# Altium footprint library RFID  Board PCB.PcbLib: 57 footprints (part 2 of 4)
Each footprint in its own frame and in the unit in brackets; x right, y up, seen from the top. Pads: shape width x height; smd on the part's side, far side on the other; paste and mask are expansions set on the pad; w line width, h text height; cw(c..) or ccw(c..) is an arc to the next point about the centre after c.
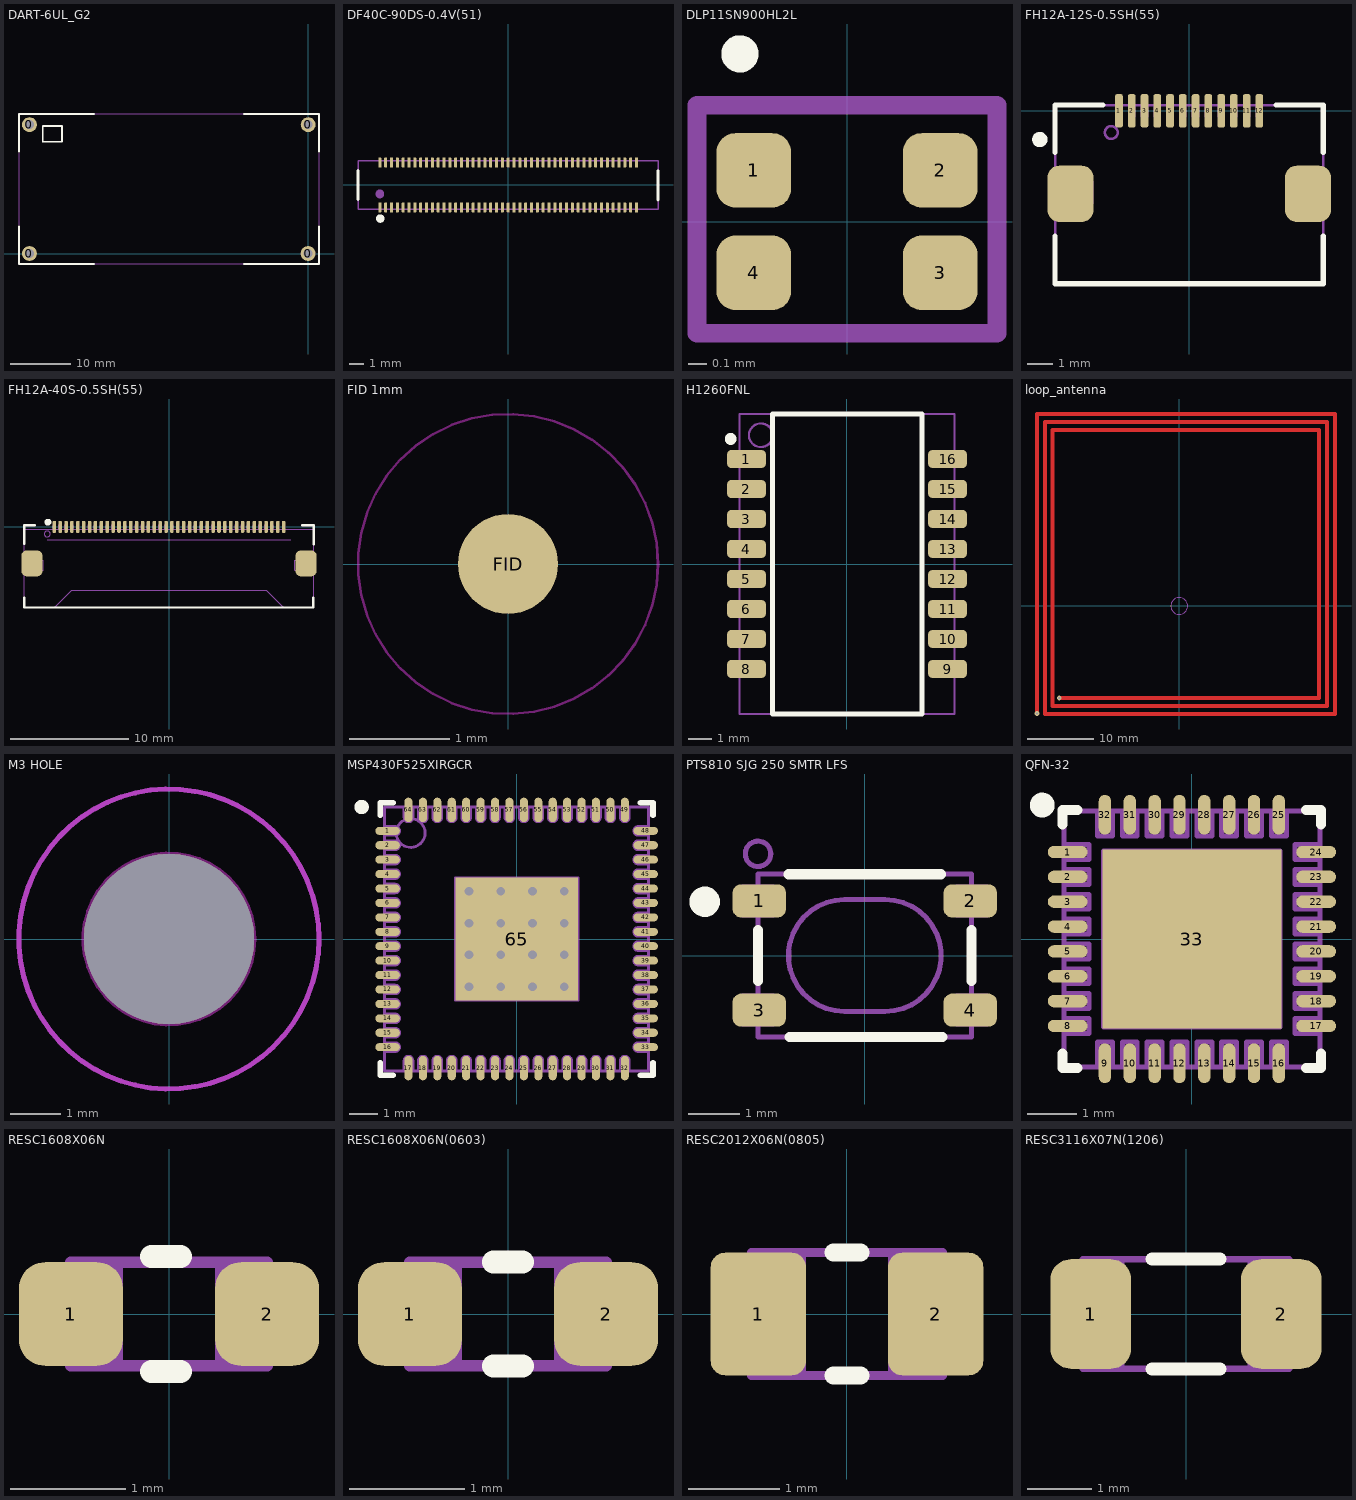
[diagram p1: the footprints below, top view; thin cyan lines are the x and y axes]

## DART-6UL_G2 [mm] "Compute Module 255x50x4mm."
height 5
pads (4):
  round 2.5 hole 1.5: 0(-46.465,0) 0(-46.465,21.478) 0(0,0) 0(0.016,21.478)
Top Overlay:
  lines w0.3: -48.215,-1.75 -48.215,4.508 ; -48.215,17.024 -48.215,23.282 -35.707,23.282 ; -48.165,-1.743 -35.657,-1.743 ; -10.691,-1.768 1.817,-1.768 ; -10.691,23.282 1.817,23.282 1.817,17.024 ; 1.817,-1.75 1.817,4.508 ; -44.24,18.65 ccw(c-44.215,18.65) -44.215,18.625 -41.04,18.625 -41.04,21.275 -44.24,21.275 -44.24,18.65
Mechanical 15:
  lines w0.2: -48.215,-1.75 -48.215,23.282 1.817,23.282 1.817,-1.75 -48.215,-1.75 -48.215,-1.75
3D body "DART-6UL_REV1-2-FINAL.STEP": height 5.45, standoff 0.55, extent -48.215,-1.75 1.817,23.282

## DF40C-90DS-0.4V(51) [mm] "Board to Board Connector 90 way, 0.4mm pitch,"
height 1.14
pads (90):
  rrect50% 0.2x0.7 smd mask+0.05: 1(-8.8,-1.54) 2(-8.8,1.54) 3(-8.4,-1.54) 4(-8.4,1.54) 5(-8,-1.54) 6(-8,1.54) 7(-7.6,-1.54) 8(-7.6,1.54) 9(-7.2,-1.54) 10(-7.2,1.54) 11(-6.8,-1.54) 12(-6.8,1.54) 13(-6.4,-1.54) 14(-6.4,1.54) 15(-6,-1.54) 16(-6,1.54) 17(-5.6,-1.54) 18(-5.6,1.54) 19(-5.2,-1.54) 20(-5.2,1.54) 21(-4.8,-1.54) 22(-4.8,1.54) 23(-4.4,-1.54) 24(-4.4,1.54) 25(-4,-1.54) 26(-4,1.54) 27(-3.6,-1.54) 28(-3.6,1.54) 29(-3.2,-1.54) 30(-3.2,1.54) 31(-2.8,-1.54) 32(-2.8,1.54) 33(-2.4,-1.54) 34(-2.4,1.54) 35(-2,-1.54) 36(-2,1.54) 37(-1.6,-1.54) 38(-1.6,1.54) 39(-1.2,-1.54) 40(-1.2,1.54) 41(-0.8,-1.54) 42(-0.8,1.54) 43(-0.4,-1.54) 44(-0.4,1.54) 45(0,-1.54) 46(0,1.54) 47(0.4,-1.54) 48(0.4,1.54) 49(0.8,-1.54) 50(0.8,1.54) 51(1.2,-1.54) 52(1.2,1.54) 53(1.6,-1.54) 54(1.6,1.54) 55(2,-1.54) 56(2,1.54) 57(2.4,-1.54) 58(2.4,1.54) 59(2.8,-1.54) 60(2.8,1.54) 61(3.2,-1.54) 62(3.2,1.54) 63(3.6,-1.54) 64(3.6,1.54) 65(4,-1.54) 66(4,1.54) 67(4.4,-1.54) 68(4.4,1.54) 69(4.8,-1.54) 70(4.8,1.54) 71(5.2,-1.54) 72(5.2,1.54) 73(5.6,-1.54) 74(5.6,1.54) 75(6,-1.54) 76(6,1.54) 77(6.4,-1.54) 78(6.4,1.54) 79(6.8,-1.54) 80(6.8,1.54) 81(7.2,-1.54) 82(7.2,1.54) 83(7.6,-1.54) 84(7.6,1.54) 85(8,-1.54) 86(8,1.54) 87(8.4,-1.54) 88(8.4,1.54) 89(8.8,-1.54) 90(8.8,1.54)
Top Overlay:
  circle w0.3: c-8.775,-2.3 r0.141
  lines w0.2: -10.3,-1 -10.3,1 ; 10.275,-1.025 10.275,0.975
Mechanical 13:
  circle w0.3: c-8.8,-0.625 r0.141
  lines w0.102: -10.3,-1.675 -10.3,1.675 10.275,1.675 10.275,-1.675 -10.3,-1.675
  text ".Designator" at -2.3,-0.49 h1.2
Mechanical 15:
  circle w0.3: c-8.8,-0.6 r0.141
  lines w0.102: -10.3,-1.675 -10.3,1.675 10.275,1.675 10.275,-1.675 -10.3,-1.675
  lines w0.12: -8.8,-1.65 -8.8,-1.4 ; -8.8,1.4 -8.8,1.65 ; -8.4,-1.65 -8.4,-1.4 ; -8.4,1.4 -8.4,1.65 ; -8,-1.65 -8,-1.4 ; -8,1.4 -8,1.65 ; -7.6,-1.65 -7.6,-1.4 ; -7.6,1.4 -7.6,1.65 ; -7.2,-1.65 -7.2,-1.4 ; -7.2,1.4 -7.2,1.65 ; -6.8,-1.65 -6.8,-1.4 ; -6.8,1.4 -6.8,1.65 ; -6.4,-1.65 -6.4,-1.4 ; -6.4,1.4 -6.4,1.65 ; -6,-1.65 -6,-1.4 ; -6,1.4 -6,1.65 ; -5.6,-1.65 -5.6,-1.4 ; -5.6,1.4 -5.6,1.65 ; -5.2,-1.65 -5.2,-1.4 ; -5.2,1.4 -5.2,1.65 ; -4.8,-1.65 -4.8,-1.4 ; -4.8,1.4 -4.8,1.65 ; -4.4,-1.65 -4.4,-1.4 ; -4.4,1.4 -4.4,1.65 ; -4,-1.65 -4,-1.4 ; -4,1.4 -4,1.65 ; -3.6,-1.65 -3.6,-1.4 ; -3.6,1.4 -3.6,1.65 ; -3.2,-1.65 -3.2,-1.4 ; -3.2,1.4 -3.2,1.65 ; -2.8,-1.65 -2.8,-1.4 ; -2.8,1.4 -2.8,1.65 ; -2.4,-1.65 -2.4,-1.4 ; -2.4,1.4 -2.4,1.65 ; -2,-1.65 -2,-1.4 ; -2,1.4 -2,1.65 ; -1.6,-1.65 -1.6,-1.4 ; -1.6,1.4 -1.6,1.65 ; -1.2,-1.65 -1.2,-1.4 ; -1.2,1.4 -1.2,1.65 ; -0.8,-1.65 -0.8,-1.4 ; -0.8,1.4 -0.8,1.65 ; -0.4,-1.65 -0.4,-1.4 ; -0.4,1.4 -0.4,1.65 ; 0,-1.65 0,-1.4 ; 0,1.4 0,1.65 ; 0.4,-1.65 0.4,-1.4 ; 0.4,1.4 0.4,1.65 ; 0.8,-1.65 0.8,-1.4 ; 0.8,1.4 0.8,1.65 ; 1.2,-1.65 1.2,-1.4 ; 1.2,1.4 1.2,1.65 ; 1.6,-1.65 1.6,-1.4 ; 1.6,1.4 1.6,1.65 ; 2,-1.65 2,-1.4 ; 2,1.4 2,1.65 ; 2.4,-1.65 2.4,-1.4 ; 2.4,1.4 2.4,1.65 ; 2.8,-1.65 2.8,-1.4 ; 2.8,1.4 2.8,1.65 ; 3.2,-1.65 3.2,-1.4 ; 3.2,1.4 3.2,1.65 ; 3.6,-1.65 3.6,-1.4 ; 3.6,1.4 3.6,1.65 ; 4,-1.65 4,-1.4 ; 4,1.4 4,1.65 ; 4.4,-1.65 4.4,-1.4 ; 4.4,1.4 4.4,1.65 ; 4.8,-1.65 4.8,-1.4 ; 4.8,1.4 4.8,1.65 ; 5.2,-1.65 5.2,-1.4 ; 5.2,1.4 5.2,1.65 ; 5.6,-1.65 5.6,-1.4 ; 5.6,1.4 5.6,1.65 ; 6,-1.65 6,-1.4 ; 6,1.4 6,1.65 ; 6.4,-1.65 6.4,-1.4 ; 6.4,1.4 6.4,1.65 ; 6.8,-1.65 6.8,-1.4 ; 6.8,1.4 6.8,1.65 ; 7.2,-1.65 7.2,-1.4 ; 7.2,1.4 7.2,1.65 ; 7.6,-1.65 7.6,-1.4 ; 7.6,1.4 7.6,1.65 ; 8,-1.65 8,-1.4 ; 8,1.4 8,1.65 ; 8.4,-1.65 8.4,-1.4 ; 8.4,1.4 8.4,1.65 ; 8.8,-1.65 8.8,-1.4 ; 8.8,1.4 8.8,1.65
3D body "DF40C-90DS.stp": height 1.4, standoff -0.05, extent -10.3,-1.69 10.3,1.69

## DLP11SN900HL2L [mm] "DFN, 4-Leads, Body 1.25x1.01mm, Pitch 1.00mm, IPC Medium Density"
height 0.92
pads (4):
  rrect50% 0.4x0.4 smd: 1(-0.5,0.275) 2(0.5,0.275) 3(0.5,-0.275) 4(-0.5,-0.275)
Top Overlay:
  circle w0.1: c-0.575,0.9 r0.05
Mechanical 13:
  lines w0.1: -0.805,-0.6 -0.805,0.625 0.805,0.625 0.805,-0.6 -0.805,-0.6
  text ".Designator" at -0.5,-0.275 h0.6
Mechanical 15:
  lines w0.05: -0.805,-0.6 -0.805,0.625 0.805,0.625 0.805,-0.6 -0.805,-0.6
3D body: height 0.92, standoff 0, extent -0.7,-0.6 0.7,0.625

## FH12A-12S-0.5SH(55) [mm] "Connector, FFC, Flip, Top & Bottom, 8 way, 2mm, Right-Angle, 6.95x10.5mm"
height 2
pads (14):
  rrect50% 0.3x1.3 smd: 1(-2.75,0) 2(-2.25,0) 3(-1.75,0) 4(-1.25,0) 5(-0.75,0) 6(-0.25,0) 7(0.25,0) 8(0.75,0) 9(1.25,0) 10(1.75,0) 11(2.25,0) 12(2.75,0)
  rrect50% 1.8x2.2 smd: ""(-4.65,-3.25) ""(4.65,-3.25)
Top Overlay:
  circle w0.3: c-5.85,-1.125 r0.15
  lines w0.2: -5.25,-4.9 -5.25,-6.775 5.25,-6.775 5.25,-4.9 ; -5.25,-1.625 -5.25,0.225 -3.375,0.225 ; 3.4,0.225 5.25,0.225 5.25,-1.625
Mechanical 13:
  circle w0.1: c-3.05,-0.85 r0.25
  lines w0.102: -5.25,-6.775 -5.25,0.225 5.25,0.225 5.25,-6.775 -5.25,-6.775
  text ".Designator" at -2,-2.1 h1
Mechanical 15:
  lines w0.1: -2.85,0.175 -2.85,-0.225 -2.65,-0.225 -2.65,0.175 ; -2.35,0.175 -2.35,-0.225 -2.15,-0.225 -2.15,0.175 ; -1.85,0.175 -1.85,-0.225 -1.65,-0.225 -1.65,0.175 ; -1.35,0.175 -1.35,-0.225 -1.15,-0.225 -1.15,0.175 ; -0.85,0.175 -0.85,-0.225 -0.65,-0.225 -0.65,0.175 ; -0.35,0.175 -0.35,-0.225 -0.15,-0.225 -0.15,0.175 ; 0.15,0.175 0.15,-0.225 0.35,-0.225 0.35,0.175 ; 0.65,0.175 0.65,-0.225 0.85,-0.225 0.85,0.175 ; 1.15,0.175 1.15,-0.225 1.35,-0.225 1.35,0.175 ; 1.65,0.175 1.65,-0.225 1.85,-0.225 1.85,0.175 ; 2.15,0.175 2.15,-0.225 2.35,-0.225 2.35,0.175 ; 2.65,0.175 2.65,-0.225 2.85,-0.225 2.85,0.175 ; -5.25,-3.625 -5.25,-2.775 -3.8,-2.775 -3.8,-3.625 -5.25,-3.625 ; 3.8,-3.625 5.25,-3.625 5.25,-2.775 3.8,-2.775 3.8,-3.625
  lines w0.102: -5.25,-6.775 -5.25,0.225 5.25,0.225 5.25,-6.775 -5.25,-6.775
3D body "FH12A-12S-0.5SH.STEP": height 2.15, standoff 0, extent -5.25,-6.775 5.25,0.225

## FH12A-40S-0.5SH(55) [mm] "Connector, FFC, Flip, Top Contact, 40 way, 0.5mm, Right-Angle, 24.7x5.25mm"
height 2
pads (42):
  rrect50% 0.3x1 smd mask+0.05: 1(-9.75,0) 2(-9.25,0) 3(-8.75,0) 4(-8.25,0) 5(-7.75,0) 6(-7.25,0) 7(-6.75,0) 8(-6.25,0) 9(-5.75,0) 10(-5.25,0) 11(-4.75,0) 12(-4.25,0) 13(-3.75,0) 14(-3.25,0) 15(-2.75,0) 16(-2.25,0) 17(-1.75,0) 18(-1.25,0) 19(-0.75,0) 20(-0.25,0) 21(0.25,0) 22(0.75,0) 23(1.25,0) 24(1.75,0) 25(2.25,0) 26(2.75,0) 27(3.25,0) 28(3.75,0) 29(4.25,0) 30(4.75,0) 31(5.25,0) 32(5.75,0) 33(6.25,0) 34(6.75,0) 35(7.25,0) 36(7.75,0) 37(8.25,0) 38(8.75,0) 39(9.25,0) 40(9.75,0)
  rrect50% 1.8x2.2 smd: ""(-11.65,-3.1) ""(11.65,-3.1)
Top Overlay:
  circle w0.3: c-10.291,0.4 r0.141
  lines w0.2: -12.3,-6 -12.3,-6.85 ; -12.3,-1.45 -12.3,0.15 ; -11.425,0.15 -12.3,0.15 ; 11.325,0.15 12.3,0.15 12.3,-1.475 ; 12.25,-6 12.25,-6.85 -12.3,-6.85 ; -12.3,-6.85 -12.3,-6.85 ; -12.3,0.15 -12.3,0.15
Mechanical 13:
  circle w0.1: c-10.35,-0.6 r0.25
  lines w0.1: -10.35,-1.1 10.35,-1.1 ; -12.3,-6.85 -12.3,-0.2 -10.05,-0.2 10.05,-0.2 12.3,-0.2 12.3,-6.85 9.7,-6.85 8.25,-5.4 -8.25,-5.4 -9.7,-6.85 -12.3,-6.85
  text ".Designator" at -1.85,-4 h2
Mechanical 15:
  lines w0.1: -9.85,-0.2 -9.85,0.2 -9.65,0.2 -9.65,-0.2 ; -9.35,-0.2 -9.35,0.2 -9.15,0.2 -9.15,-0.2 ; -8.85,-0.2 -8.85,0.2 -8.65,0.2 -8.65,-0.2 ; -8.35,-0.2 -8.35,0.2 -8.15,0.2 -8.15,-0.2 ; -7.85,-0.2 -7.85,0.2 -7.65,0.2 -7.65,-0.2 ; -7.35,-0.2 -7.35,0.2 -7.15,0.2 -7.15,-0.2 ; -6.85,-0.2 -6.85,0.2 -6.65,0.2 -6.65,-0.2 ; -6.35,-0.2 -6.35,0.2 -6.15,0.2 -6.15,-0.2 ; -5.85,-0.2 -5.85,0.2 -5.65,0.2 -5.65,-0.2 ; -5.35,-0.2 -5.35,0.2 -5.15,0.2 -5.15,-0.2 ; -4.85,-0.2 -4.85,0.2 -4.65,0.2 -4.65,-0.2 ; -4.35,-0.2 -4.35,0.2 -4.15,0.2 -4.15,-0.2 ; -3.85,-0.2 -3.85,0.2 -3.65,0.2 -3.65,-0.2 ; -3.35,-0.2 -3.35,0.2 -3.15,0.2 -3.15,-0.2 ; -2.85,-0.2 -2.85,0.2 -2.65,0.2 -2.65,-0.2 ; -2.35,-0.2 -2.35,0.2 -2.15,0.2 -2.15,-0.2 ; -1.85,-0.2 -1.85,0.2 -1.65,0.2 -1.65,-0.2 ; -1.35,-0.2 -1.35,0.2 -1.15,0.2 -1.15,-0.2 ; -0.85,-0.2 -0.85,0.2 -0.65,0.2 -0.65,-0.2 ; -0.35,-0.2 -0.35,0.2 -0.15,0.2 -0.15,-0.2 ; 0.15,-0.2 0.15,0.2 0.35,0.2 0.35,-0.2 ; 0.65,-0.2 0.65,0.2 0.85,0.2 0.85,-0.2 ; 1.15,-0.2 1.15,0.2 1.35,0.2 1.35,-0.2 ; 1.65,-0.2 1.65,0.2 1.85,0.2 1.85,-0.2 ; 2.15,-0.2 2.15,0.2 2.35,0.2 2.35,-0.2 ; 2.65,-0.2 2.65,0.2 2.85,0.2 2.85,-0.2 ; 3.15,-0.2 3.15,0.2 3.35,0.2 3.35,-0.2 ; 3.65,-0.2 3.65,0.2 3.85,0.2 3.85,-0.2 ; 4.15,-0.2 4.15,0.2 4.35,0.2 4.35,-0.2 ; 4.65,-0.2 4.65,0.2 4.85,0.2 4.85,-0.2 ; 5.15,-0.2 5.15,0.2 5.35,0.2 5.35,-0.2 ; 5.65,-0.2 5.65,0.2 5.85,0.2 5.85,-0.2 ; 6.15,-0.2 6.15,0.2 6.35,0.2 6.35,-0.2 ; 6.65,-0.2 6.65,0.2 6.85,0.2 6.85,-0.2 ; 7.15,-0.2 7.15,0.2 7.35,0.2 7.35,-0.2 ; 7.65,-0.2 7.65,0.2 7.85,0.2 7.85,-0.2 ; 8.15,-0.2 8.15,0.2 8.35,0.2 8.35,-0.2 ; 8.65,-0.2 8.65,0.2 8.85,0.2 8.85,-0.2 ; 9.15,-0.2 9.15,0.2 9.35,0.2 9.35,-0.2 ; 9.65,-0.2 9.65,0.2 9.85,0.2 9.85,-0.2 ; -12.3,-6.85 -12.3,-0.2 -10.05,-0.2 10.05,-0.2 12.3,-0.2 12.3,-6.85 9.7,-6.85 8.25,-5.4 -8.25,-5.4 -9.7,-6.85 -12.3,-6.85 ; -12.15,-3.7 -10.7,-3.7 -10.7,-2.85 -12.15,-2.85 -12.15,-3.7 ; 10.7,-3.7 10.7,-2.85 12.15,-2.85 12.15,-3.7 10.7,-3.7
3D body "FH12A-40S-0.5SH.stp": height 2.05, standoff -0.1, extent -12.25,-6.85 12.25,0.15

## FID 1mm [mm] "FID, 1mm Solder Mask Clearance"
pads (1):
  round 1 smd mask+1: FID(0,0)
Top Layer keep-out:
  circle w0.025: c0,0 r1.5

## H1260FNL [mm] "SOP, 16-Leads, Body 12.70x9.04mm, Pitch 1.27mm, IPC Medium Density"
height 5.99
pads (16):
  rrect50% 1.65x0.76 smd: 1(-4.255,4.445) 2(-4.255,3.175) 3(-4.255,1.905) 4(-4.255,0.635) 5(-4.255,-0.635) 6(-4.255,-1.905) 7(-4.255,-3.175) 8(-4.255,-4.445) 9(4.255,-4.445) 10(4.255,-3.175) 11(4.255,-1.905) 12(4.255,-0.635) 13(4.255,0.635) 14(4.255,1.905) 15(4.255,3.175) 16(4.255,4.445)
Top Overlay:
  circle w0.25: c-4.925,5.295 r0.125
  lines w0.2: -3.15,-6.35 -3.15,6.35 3.175,6.35 3.175,-6.35 -3.15,-6.35
Mechanical 13:
  circle w0.1: c-3.65,5.45 r0.5
  lines w0.1: -4.55,-6.35 -4.55,6.35 4.55,6.35 4.55,-6.35 -4.55,-6.35
  text ".Designator" at 1.05,-4.25 h2
Mechanical 15:
  lines w0.1: -4.825,-4.6 -3.825,-4.6 -3.825,-4.3 -4.825,-4.3 -4.825,-4.6 ; -4.825,-3.33 -3.825,-3.33 -3.825,-3.03 -4.825,-3.03 -4.825,-3.33 ; -4.825,-2.06 -3.825,-2.06 -3.825,-1.76 -4.825,-1.76 -4.825,-2.06 ; -4.825,-0.79 -3.825,-0.79 -3.825,-0.49 -4.825,-0.49 -4.825,-0.79 ; -4.825,0.48 -3.825,0.48 -3.825,0.78 -4.825,0.78 -4.825,0.48 ; -4.825,1.75 -3.825,1.75 -3.825,2.05 -4.825,2.05 -4.825,1.75 ; -4.825,3.02 -3.825,3.02 -3.825,3.32 -4.825,3.32 -4.825,3.02 ; -4.825,4.29 -3.825,4.29 -3.825,4.59 -4.825,4.59 -4.825,4.29 ; -4.55,-6.35 -4.55,6.35 4.55,6.35 4.55,-6.35 -4.55,-6.35 ; 3.825,-4.6 4.825,-4.6 4.825,-4.3 3.825,-4.3 3.825,-4.6 ; 3.825,-3.33 4.825,-3.33 4.825,-3.03 3.825,-3.03 3.825,-3.33 ; 3.825,-2.06 4.825,-2.06 4.825,-1.76 3.825,-1.76 3.825,-2.06 ; 3.825,-0.79 4.825,-0.79 4.825,-0.49 3.825,-0.49 3.825,-0.79 ; 3.825,0.48 4.825,0.48 4.825,0.78 3.825,0.78 3.825,0.48 ; 3.825,1.75 4.825,1.75 4.825,2.05 3.825,2.05 3.825,1.75 ; 3.825,3.02 4.825,3.02 4.825,3.32 3.825,3.32 3.825,3.02 ; 3.825,4.29 4.825,4.29 4.825,4.59 3.825,4.59 3.825,4.29
3D body: height 5.99, standoff 0.13, extent -4.55,-6.35 4.55,6.35

## loop_antenna [mm]
via -18.125,-13.9 diameter 0.711 hole 0.356
via -21.5,-16.25 diameter 0.711 hole 0.356
Top Layer:
  lines w0.6: -21.488,-16.085 -21.488,29 23.525,29 23.525,-16.325 -20.319,-16.325 -20.319,27.775 22.325,27.775 22.325,-15.125 -19.139,-15.125 -19.139,26.587 21.12,26.587 21.12,-13.926 -18.123,-13.926
Mechanical 1:
  text "1.02uH @ 13.56Mhz" at -10.2,13.75 h1.02
  text "Rel. El. Permitivity 4.6" at -10.3,12 h1.02
  text "Substrate Thickness 1mm" at -10.35,10.325 h1.02
  text "Copper thickness 35um" at -10.275,8.8 h1.02
Mechanical 13:
  circle w0.1: c0,0 r1.27
  text ".Designator" at -1.2,-0.275 h0.51

## M3 HOLE [mm] "M3 Hole"
pads (1):
  round 3.4 hole 3.4 unplated paste-3 mask-3: ""(0,0)
Keep-Out Layer:
  circle w0.1: c0,0 r1.7
  circle w0.1: c0,0 r3
Mechanical 13:
  circle w0.1: c0,0 r3

## MSP430F525XIRGCR [mm] "QFN, 64-Leads, Body 9.00x9.00mm, Pitch 0.50mm, Thermal Pad 4.25x4.25mm, IPC Medium Density"
height 1
pads (65):
  oval 0.85x0.28 smd paste-0.025 mask+0.07: 1(-4.475,3.75) 2(-4.475,3.25) 3(-4.475,2.75) 4(-4.475,2.25) 5(-4.475,1.75) 6(-4.475,1.25) 7(-4.475,0.75) 8(-4.475,0.25) 9(-4.475,-0.25) 10(-4.475,-0.75) 11(-4.475,-1.25) 12(-4.475,-1.75) 13(-4.475,-2.25) 14(-4.475,-2.75) 15(-4.475,-3.25) 16(-4.475,-3.75) 33(4.475,-3.75) 34(4.475,-3.25) 35(4.475,-2.75) 36(4.475,-2.25) 37(4.475,-1.75) 38(4.475,-1.25) 39(4.475,-0.75) 40(4.475,-0.25) 41(4.475,0.25) 42(4.475,0.75) 43(4.475,1.25) 44(4.475,1.75) 45(4.475,2.25) 46(4.475,2.75) 47(4.475,3.25) 48(4.475,3.75)
  oval 0.28x0.85 smd paste-0.025 mask+0.07: 17(-3.75,-4.475) 18(-3.25,-4.475) 19(-2.75,-4.475) 20(-2.25,-4.475) 21(-1.75,-4.475) 22(-1.25,-4.475) 23(-0.75,-4.475) 24(-0.25,-4.475) 25(0.25,-4.475) 26(0.75,-4.475) 27(1.25,-4.475) 28(1.75,-4.475) 29(2.25,-4.475) 30(2.75,-4.475) 31(3.25,-4.475) 32(3.75,-4.475) 49(3.75,4.475) 50(3.25,4.475) 51(2.75,4.475) 52(2.25,4.475) 53(1.75,4.475) 54(1.25,4.475) 55(0.75,4.475) 56(0.25,4.475) 57(-0.25,4.475) 58(-0.75,4.475) 59(-1.25,4.475) 60(-1.75,4.475) 61(-2.25,4.475) 62(-2.75,4.475) 63(-3.25,4.475) 64(-3.75,4.475)
  rect 4.25x4.25 smd paste-5 mask+0.07: 65(0,0)
via -1.65,1.65 diameter 0.6 hole 0.3
via -0.55,1.65 diameter 0.6 hole 0.3
via 0.55,1.65 diameter 0.6 hole 0.3
via 1.65,1.65 diameter 0.6 hole 0.3
via -1.65,0.55 diameter 0.6 hole 0.3
via -0.55,0.55 diameter 0.6 hole 0.3
via 0.55,0.55 diameter 0.6 hole 0.3
via 1.65,0.55 diameter 0.6 hole 0.3
via -1.65,-0.55 diameter 0.6 hole 0.3
via -0.55,-0.55 diameter 0.6 hole 0.3
via 0.55,-0.55 diameter 0.6 hole 0.3
via 1.65,-0.55 diameter 0.6 hole 0.3
via -1.65,-1.65 diameter 0.6 hole 0.3
via -0.55,-1.65 diameter 0.6 hole 0.3
via 0.55,-1.65 diameter 0.6 hole 0.3
via 1.65,-1.65 diameter 0.6 hole 0.3
Top Overlay:
  circle w0.25: c-5.375,4.575 r0.125
  lines w0.2: -4.725,-4.29 -4.725,-4.725 -4.29,-4.725 ; -4.725,4.29 -4.725,4.725 -4.29,4.725 ; 4.29,-4.725 4.725,-4.725 4.725,-4.29 ; 4.29,4.725 4.725,4.725 4.725,4.29
Top Paste:
  rectangle: 0.15,0.15 1.95,1.95
  region: -0.15,1.95 -1.95,1.95 -1.95,0.15 -0.15,0.15
  region: -0.15,-0.15 -1.95,-0.15 -1.95,-1.95 -0.15,-1.95
  rectangle: 0.15,-1.95 1.95,-0.15
Mechanical 13:
  circle w0.1: c-3.675,3.675 r0.5
  lines w0.1: -4.575,-4.575 -4.575,4.575 4.575,4.575 4.575,-4.575 -4.575,-4.575
  text ".Designator" at -3.65,-1 h2
Mechanical 15:
  drawing of 200 lines, arcs and shapes, not listed
3D body "MSP430F5257IRGCR.step": height 1, standoff 0, extent -4.655,-4.655 4.655,4.655

## PTS810 SJG 250 SMTR LFS [mm] "Switch, Tactile, 400g Force, SPST-NO, 0.05A, 16V"
height 2.5
pads (4):
  rrect50% 1.05x0.65 smd: 1(-2.075,1.075) 2(2.075,1.075) 3(-2.075,-1.075) 4(2.075,-1.075)
Top Overlay:
  circle w0.3: c-3.15,1.058 r0.15
  lines w0.2: -2.1,-0.5 -2.1,0.5 ; -1.5,1.6 1.5,1.6 ; -1.475,-1.6 1.525,-1.6 ; 2.1,-0.5 2.1,0.5
Mechanical 13:
  circle w0.1: c-2.1,2 r0.25
  lines w0.1: -2.1,-1.6 2.1,-1.6 2.1,1.6 -2.1,1.6 -2.1,-1.6
  text ".Designator" at -1.65,-0.45 h0.9
Mechanical 15:
  circle w0.1: c-2.1,2 r0.25
  lines w0.1: -2.4,-1.35 -2.4,-0.8 -2.1,-0.8 -1.8,-0.8 -1.8,-1.35 -2.1,-1.35 -2.4,-1.35 ; -2.4,0.8 -2.1,0.8 -1.8,0.8 -1.8,1.35 -2.1,1.35 -2.4,1.35 -2.4,0.8 ; -2.1,-1.6 -2.1,1.6 2.1,1.6 2.1,-1.6 -2.1,-1.6 ; -0.4,-1.1 cw(c-0.4,0) -0.4,1.1 0.4,1.1 cw(c0.4,0) 0.4,-1.1 -0.4,-1.1 ; 1.8,-1.35 2.1,-1.35 2.4,-1.35 2.4,-0.8 2.1,-0.8 1.8,-0.8 1.8,-1.35 ; 1.8,0.8 2.1,0.8 2.4,0.8 2.4,1.35 2.1,1.35 1.8,1.35 1.8,0.8
3D body: height 0.7, standoff 0, extent 1.8,0.8 2.4,1.35
3D body: height 0.7, standoff 0, extent 1.8,-1.35 2.4,-0.8
3D body: height 0.7, standoff 0, extent -2.4,-1.35 -1.8,-0.8
3D body: height 0.7, standoff 0, extent -2.4,0.8 -1.8,1.35
3D body: height 2, standoff 0.01, extent -2.1,-1.6 2.1,1.6
3D body: height 2.7, standoff 1.6, extent -1.5,-1.1 1.5,1.1

## QFN-32 [mm] "QFN, 32-Leads, Body 5.2x5.2mm (max), Pitch 0.50mm, IPC Medium Density"
height 1
pads (33):
  oval 0.8x0.25 smd mask+0.125: 1(-2.5,1.75) 2(-2.5,1.25) 3(-2.5,0.75) 4(-2.5,0.25) 5(-2.5,-0.25) 6(-2.5,-0.75) 7(-2.5,-1.25) 8(-2.5,-1.75) 17(2.5,-1.75) 18(2.5,-1.25) 19(2.5,-0.75) 20(2.5,-0.25) 21(2.5,0.25) 22(2.5,0.75) 23(2.5,1.25) 24(2.5,1.75)
  oval 0.25x0.8 smd mask+0.125: 9(-1.75,-2.5) 10(-1.25,-2.5) 11(-0.75,-2.5) 12(-0.25,-2.5) 13(0.25,-2.5) 14(0.75,-2.5) 15(1.25,-2.5) 16(1.75,-2.5) 25(1.75,2.5) 26(1.25,2.5) 27(0.75,2.5) 28(0.25,2.5) 29(-0.25,2.5) 30(-0.75,2.5) 31(-1.25,2.5) 32(-1.75,2.5)
  rect 3.6x3.6 smd mask+0.5: 33(0,0)
Top Overlay:
  circle w0.25: c-3.012,2.695 r0.125
  lines w0.2: -2.6,-2.3 -2.6,-2.6 -2.3,-2.6 ; -2.6,2.3 -2.6,2.6 -2.3,2.6 ; 2.3,-2.6 2.6,-2.6 2.6,-2.3 ; 2.3,2.6 2.6,2.6 2.6,2.3
Mechanical 13:
  lines w0.1: -2.575,-2.575 -2.575,2.575 2.575,2.575 2.575,-2.575 -2.575,-2.575
  text ".Designator" at 0.145,-2.35 h0.5
Mechanical 15:
  lines w0.1: -2.575,-2.575 2.575,-2.575 2.575,2.575 -2.575,2.575 -2.575,-2.575 ; -2.575,-1.9 -2.575,-1.6 -2.075,-1.6 -2.075,-1.9 -2.575,-1.9 ; -2.575,-1.4 -2.575,-1.1 -2.075,-1.1 -2.075,-1.4 -2.575,-1.4 ; -2.575,-0.9 -2.575,-0.6 -2.075,-0.6 -2.075,-0.9 -2.575,-0.9 ; -2.575,-0.4 -2.075,-0.4 -2.075,-0.1 -2.575,-0.1 -2.575,-0.4 ; -2.575,0.1 -2.575,0.4 -2.075,0.4 -2.075,0.1 -2.575,0.1 ; -2.575,0.6 -2.575,0.9 -2.075,0.9 -2.075,0.6 -2.575,0.6 ; -2.575,1.1 -2.575,1.4 -2.075,1.4 -2.075,1.1 -2.575,1.1 ; -2.575,1.6 -2.575,1.9 -2.075,1.9 -2.075,1.6 -2.575,1.6 ; -1.9,-2.575 -1.6,-2.575 -1.6,-2.075 -1.9,-2.075 -1.9,-2.575 ; -1.9,2.075 -1.6,2.075 -1.6,2.575 -1.9,2.575 -1.9,2.075 ; -1.775,-1.775 -1.775,1.775 1.775,1.775 1.775,-1.775 -1.775,-1.775 ; -1.4,-2.575 -1.1,-2.575 -1.1,-2.075 -1.4,-2.075 -1.4,-2.575 ; -1.4,2.075 -1.1,2.075 -1.1,2.575 -1.4,2.575 -1.4,2.075 ; -0.9,-2.575 -0.6,-2.575 -0.6,-2.075 -0.9,-2.075 -0.9,-2.575 ; -0.9,2.075 -0.6,2.075 -0.6,2.575 -0.9,2.575 -0.9,2.075 ; -0.4,-2.575 -0.1,-2.575 -0.1,-2.075 -0.4,-2.075 -0.4,-2.575 ; -0.4,2.075 -0.4,2.575 -0.1,2.575 -0.1,2.075 -0.4,2.075 ; 0.1,-2.575 0.1,-2.075 0.4,-2.075 0.4,-2.575 0.1,-2.575 ; 0.1,2.075 0.4,2.075 0.4,2.575 0.1,2.575 0.1,2.075 ; 0.6,-2.575 0.9,-2.575 0.9,-2.075 0.6,-2.075 0.6,-2.575 ; 0.6,2.075 0.9,2.075 0.9,2.575 0.6,2.575 0.6,2.075 ; 1.1,-2.575 1.4,-2.575 1.4,-2.075 1.1,-2.075 1.1,-2.575 ; 1.1,2.075 1.4,2.075 1.4,2.575 1.1,2.575 1.1,2.075 ; 1.6,-2.575 1.9,-2.575 1.9,-2.075 1.6,-2.075 1.6,-2.575 ; 1.6,2.075 1.9,2.075 1.9,2.575 1.6,2.575 1.6,2.075 ; 2.075,-1.9 2.575,-1.9 2.575,-1.6 2.075,-1.6 2.075,-1.9 ; 2.075,-1.4 2.575,-1.4 2.575,-1.1 2.075,-1.1 2.075,-1.4 ; 2.075,-0.9 2.575,-0.9 2.575,-0.6 2.075,-0.6 2.075,-0.9 ; 2.075,-0.4 2.575,-0.4 2.575,-0.1 2.075,-0.1 2.075,-0.4 ; 2.075,0.1 2.075,0.4 2.575,0.4 2.575,0.1 2.075,0.1 ; 2.075,0.6 2.575,0.6 2.575,0.9 2.075,0.9 2.075,0.6 ; 2.075,1.1 2.575,1.1 2.575,1.4 2.075,1.4 2.075,1.1 ; 2.075,1.6 2.575,1.6 2.575,1.9 2.075,1.9 2.075,1.6
3D body: height 1, standoff 0.05, extent -2.575,-2.575 2.575,2.575

## RESC1608X06N [mm] "Chip Resistor 0603, 2-Leads, Body 1.6x0.8mm, IPC Medium Density"
height 0.55
pads (2):
  rrect50% 0.9x0.9 smd: 1(-0.85,0) 2(0.85,0)
Top Overlay:
  lines w0.2: -0.15,-0.5 0.1,-0.5 ; -0.15,0.5 0.1,0.5
Mechanical 13:
  lines w0.1: -0.85,-0.45 0.85,-0.45 0.85,0.45 -0.85,0.45 -0.85,-0.45
  text ".Designator" at -0.85,-0.125 h0.4
Mechanical 15:
  lines w0.1: -0.45,-0.45 -0.45,0.45 ; 0.45,-0.45 0.45,0.45 ; -0.85,-0.45 0.85,-0.45 0.85,0.45 -0.85,0.45 -0.85,-0.45
3D body: height 0.55, standoff 0, extent -0.85,-0.45 0.85,0.45

## RESC1608X06N(0603) [mm] "Chip Resistor 0603, 2-Leads, Body 1.6x0.8mm, IPC Medium Density"
height 0.55
pads (2):
  rrect50% 0.9x0.9 smd: 1(-0.85,0) 2(0.85,0)
Top Overlay:
  lines w0.2: -0.127,-0.45 0.127,-0.45 ; -0.127,0.45 0.127,0.45
Mechanical 13:
  lines w0.1: -0.85,-0.45 -0.85,0.45 0.85,0.45 0.85,-0.45 -0.85,-0.45
  text ".Designator" at -0.65,-0.19 h0.35
Mechanical 15:
  lines w0.1: -0.45,-0.45 -0.45,0.45 ; 0.45,-0.45 0.45,0.45 ; -0.85,-0.45 -0.85,0.45 0.85,0.45 0.85,-0.45 -0.85,-0.45
3D body: height 0.55, standoff 0, extent 0.45,-0.45 0.85,0.45
3D body: height 0.55, standoff 0, extent -0.85,-0.45 -0.45,0.45
3D body: height 0.55, standoff 0, extent -0.45,-0.45 0.45,0.45

## RESC2012X06N(0805) [mm] "Chip Resistor, 2-Leads, Body 2.0x1.3mm, IPC Medium Density"
height 0.6
pads (2):
  rrect30% 1.05x1.35 smd: 1(-0.975,0) 2(0.975,0)
Top Overlay:
  lines w0.2: -0.15,-0.675 0.15,-0.675 ; -0.15,0.675 0.15,0.675
Mechanical 13:
  lines w0.1: -1.05,-0.675 1.05,-0.675 1.05,0.675 -1.05,0.675 -1.05,-0.675
  text ".Designator" at -0.825,-0.225 h0.45
Mechanical 15:
  lines w0.1: -0.5,-0.675 -0.5,0.675 ; 0.5,-0.675 0.5,0.675 ; -1.05,-0.675 -1.05,0.675 1.05,0.675 1.05,-0.675 -1.05,-0.675
3D body: height 0.6, standoff 0, extent -1.05,-0.675 -0.5,0.675
3D body: height 0.6, standoff 0, extent -0.5,-0.675 0.5,0.675
3D body: height 0.6, standoff 0, extent 0.5,-0.675 1.05,0.675

## RESC3116X07N(1206) [mm] "Chip Resistor, 2-Leads, Body 3.10x1.60mm, IPC Medium Density"
height 0.65
pads (2):
  rrect50% 1.25x1.7 smd: 1(-1.475,0) 2(1.475,0)
Top Overlay:
  lines w0.2: -0.525,-0.85 0.525,-0.85 ; -0.525,0.85 0.525,0.85
Mechanical 13:
  lines w0.1: -1.6,-0.85 -1.6,0.85 1.6,0.85 1.6,-0.85 -1.6,-0.85
  text ".Designator" at -1.275,-0.35 h0.7
Mechanical 15:
  lines w0.1: -1,-0.85 -1,0.85 ; 1,-0.85 1,0.85 ; -1.6,-0.85 1.6,-0.85 1.6,0.85 -1.6,0.85 -1.6,-0.85
3D body: height 0.65, standoff 0, extent 1,-0.85 1.6,0.85
3D body: height 0.65, standoff 0, extent -1,-0.85 1,0.85
3D body: height 0.65, standoff 0, extent -1.6,-0.85 -1,0.85